# EAGLE library part ID-12/20-CLEARED (library nerdvellous-house-manager)
RFID reader for ID2, ID12, and ID20 Package
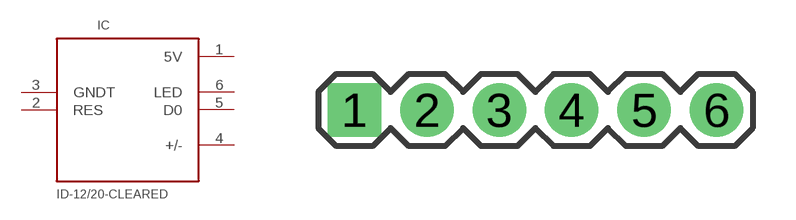
[diagram p1: symbol with the pads of 1X06_POL; footprint 1X06_POL]

Designator prefix IC

## ID-12/20-CLEARED  [1X06_POL]
1  5V
2  RES
3  GNDT
4  +/-
5  D0
6  LED

## Footprint 1X06_POL (pad centres in mm)
drill 1.016 pad 1.88 square: 1 0,0
drill 1.016 pad 1.88: 2 2.54,0; 3 5.08,0; 4 7.62,0; 5 10.16,0; 6 12.7,0